# Altium schematic symbol library 74LV4046.SchLib: 1 symbol
Pins are listed as number, name and electrical type; pins without a type are passive.

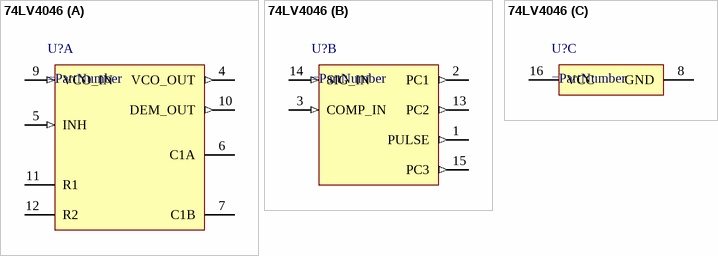
[diagram p0: symbol 74LV4046]

## 74LV4046
designator U?
part A pins: 4 VCO_OUT (out), 5 INH (in), 6 C1A, 7 C1B, 9 VCO_IN (in), 10 DEM_OUT (out), 11 R1, 12 R2
part B pins: 1 PULSE (out), 2 PC1 (out), 3 COMP_IN (in), 13 PC2 (out), 14 SIG_IN (in), 15 PC3 (out)
part C pins: 8 GND, 16 VCC